# EAGLE library part 50238-010 (library con-aces-50238-series)
ACES CONNECTORS 50238 SERIES ACES Connecors 50238 <https://www.acesconn.com/tw/series/50238-xxxxx-xxx/1290>
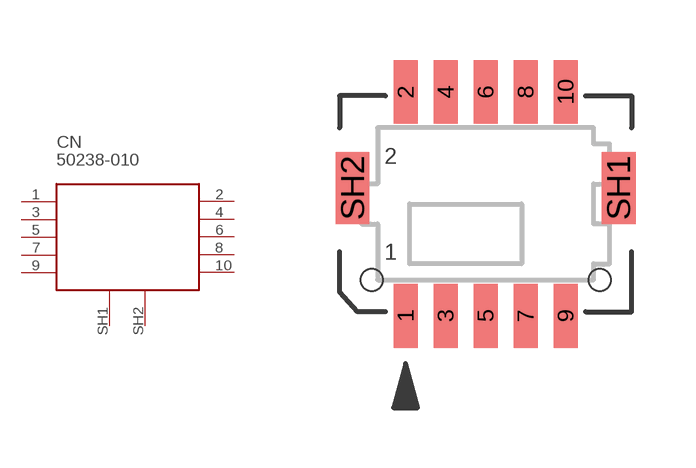
[diagram p1: symbol with the pads of 50238-010; footprint 50238-010]

Designator prefix CN

## 50238-010  [50238-010]
1  1
2  2
3  3
4  4
5  5
6  6
7  7
8  8
9  9
10  10
SH1  SH1
SH2  SH2

## Footprint 50238-010 (pad centres in mm)
smd 0.6 x 1.6: 1 -2,-2.8; 2 -2,2.8; 3 -1,-2.8; 4 -1,2.8; 5 0,-2.8; 6 0,2.8; 7 1,-2.8; 8 1,2.8; 9 2,-2.8; 10 2,2.8
smd 0.85 x 1.8: SH1 3.325,0.4; SH2 -3.325,0.4
hole 0.55 at -2.85,-1.9
hole 0.55 at 2.85,-1.9